# Altium integrated library Integrated_Library1.IntLib: 1 symbol
Pins are listed as number, name and electrical type; pins without a type are passive.

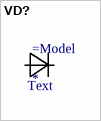
[diagram p0: symbol VD?]

## VD?
designator =Model
Model: 1N4148
footprint DO-35 300mil
footprint 123
pins: 1 Anode, 2 Cathode
text: Text